# EAGLE library part LT3750EMSPBF (library LT3750-element)
Capacitor Charger Controller
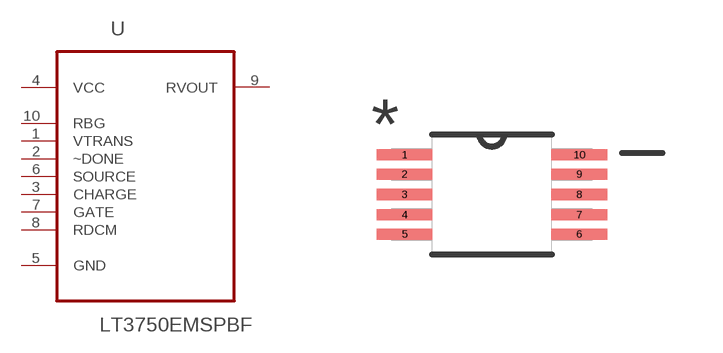
[diagram p0: symbol with the pads of SOP50P490X110-10N; footprint SOP50P490X110-10N]

Designator prefix U

## LT3750EMSPBF (MPN: LT3750EMS#PBF; OC_FARNELL: 1273500; OC_NEWARK: 57M8591; PACKAGE: MSOP-10; SUPPLIER: Linear Technology)  [SOP50P490X110-10N]
1  VTRANS  pwr
2  ~DONE  in
3  CHARGE  in
4  VCC  pwr
5  GND  pas
6  SOURCE  in
7  GATE  in
8  RDCM  in
9  RVOUT  out
10  RBG  in

## Footprint SOP50P490X110-10N (pad centres in mm)
smd 1.397 x 0.279: 1 -2.184,0.991; 2 -2.184,0.508; 3 -2.184,0; 4 -2.184,-0.508; 5 -2.184,-0.991; 6 2.184,-0.991; 7 2.184,-0.508; 8 2.184,0; 9 2.184,0.508; 10 2.184,0.991